# Altium schematic symbol library Components.SchLib: 7 symbols
Pins are listed as number, name and electrical type; pins without a type are passive.

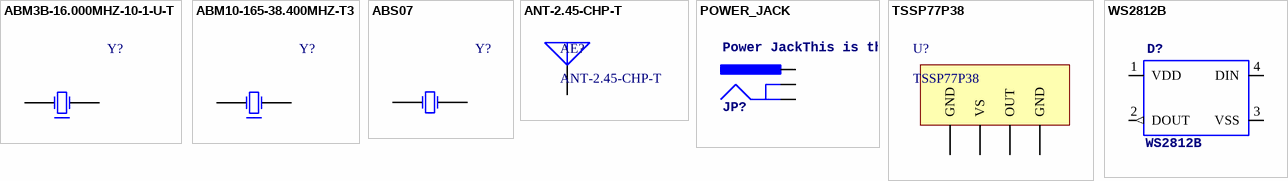
[diagram p0: symbols ABM3B-16.000MHZ-10-1-U-T to WS2812B]

## ABM3B-16.000MHZ-10-1-U-T
designator Y?
PartNumber: ABM3B-16.000MHZ-10-1-U-T; Manufacturer: ABRACON; Mounting Technology: Surface Mount; PackageReference: 2012; PackageDescription: 2012 (5032 metric)
footprint ABRA-ABM3B-4_V (SMT Crystal, 4-Leads, Body 5.2x3.4mm)
pins: 1 X1, 2, 3 X2

## ABM10-165-38.400MHZ-T3
designator Y?
PartNumber: ABM10-165-38.400MHZ-T3; Manufacturer: ABRACON; Mounting Technology: Surface Mount; PackageReference: 4-SMD; PackageDescription: 4-SMD, No Lead (DFN, LCC)
footprint ABRA-ABM10 (SMT Crystal, 4-Leads, Body 5.2x3.4mm)
pins: 1 X1, 2, 3 X2

## ABS07
designator Y?
Manufacturer: Abracon; PartNumber: ABS07-32.768KHZ-T; Mounting Technology: Surface Mount; PackageReference: 2-SMD
footprint ABS07
pins: 1 X1, 2 X2

## ANT-2.45-CHP-T
designator AE?
Manufacturer: Taiyo Yuden; PartNumber: ANT-2.45-CHP-T; Mounting Technology: Surface Mount
footprint ANT-2.45-CHP
pins: 1

## POWER_JACK
designator JP?, comment Power JackThis is the standard 5.5mm barrel jack for power. The PTH is the most common, proven, reliable, footprint. The Slot footprint only works if the mill layer is transmitted to the PCB fab house so be warned. Mating wall wart : TOL-00298 (and others)
footprint POWER_JACK_SMD
pins: 1 PWR, 2 GND, 3 GND

## TSSP77P38
designator U?
Manufacturer: Vishay; PartNumber: TSSP77P38; Mounting Technology: Surface Mount
footprint TSSP77P38
pins: 1 GND, 2 VS, 3 OUT, 4 GND

## WS2812B
designator D?
PartNumber: WS2812B
footprint WS2812B
pins: 1 VDD (power), 2 DOUT (out), 3 VSS (power), 4 DIN